# EAGLE library part 10_PIN_IDC (library Eric Navarrete Custom Parts Feb 2019)
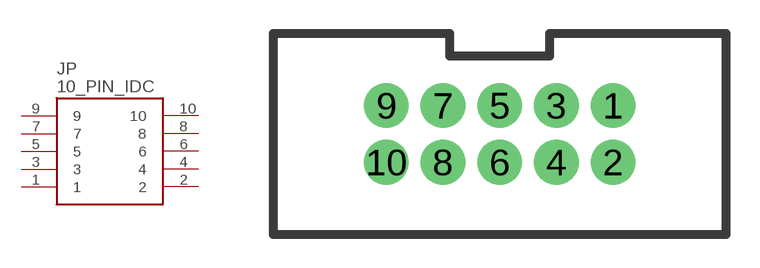
[diagram p12: symbol with the pads of BOOM_ELECTRIC_HDR-IDC-2.54-2X5P; footprint BOOM_ELECTRIC_HDR-IDC-2.54-2X5P]

Designator prefix JP

## 10_PIN_IDC  [BOOM_ELECTRIC_HDR-IDC-2.54-2X5P]
1  1  in
2  2  in
3  3  in
4  4  in
5  5  in
6  6  in
7  7  in
8  8  in
9  9  in
10  10  in

## Footprint BOOM_ELECTRIC_HDR-IDC-2.54-2X5P (pad centres in mm)
drill 1 pad 2: 1 5.08,1.27; 2 5.08,-1.27; 3 2.54,1.27; 4 2.54,-1.27; 5 0,1.27; 6 0,-1.27; 7 -2.54,1.27; 8 -2.54,-1.27; 9 -5.08,1.27; 10 -5.08,-1.27